# Altium schematic symbol library 1842461.SchLib: 1 symbol
Pins are listed as number, name and electrical type; pins without a type are passive.

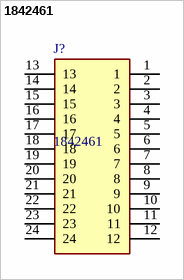
[diagram p0: symbol 1842461]

## 1842461
designator J?
Phoenix Contact MDSTB Series, 5.08mm Pitch 12 Way PCB Header, Solder Termination, 10A; Geometry.Height: 23.7mm; TME Electronic Components Part Number: *; TME Electronic Components Price/Stock: *; Manufacturer_Name: Phoenix Contact; Manufacturer_Part_Number: 1842461; Datasheet Link: https://datasheet.datasheetarchive.com/originals/distributors/SFDatasheet-2/sf-00054433.pdf
footprint 1842461
pins: 1, 2, 3, 4, 5, 6, 7, 8, 9, 10, 11, 12, 13, 14, 15, 16, 17, 18, 19, 20, 21, 22, 23, 24